# EAGLE library part HEADER-6WAY (library con-TE-EP)
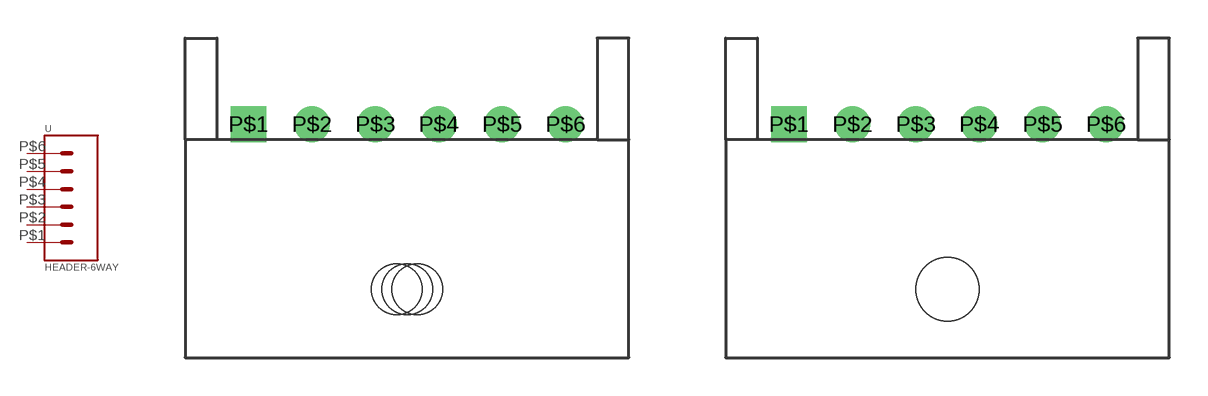
[diagram p0: symbol with the pads of 1744426-6; footprints 1744426-6, 1744426-6-NOSLOT]

Designator prefix -

## HEADER-6WAY  [1744426-6]
P$1  P$1  pas
P$2  P$2  pas
P$3  P$3  pas
P$4  P$4  pas
P$5  P$5  pas
P$6  P$6  pas

## HEADER-6WAYNOSLOT  [1744426-6-NOSLOT]
Pads as for 1744426-6

## Footprint 1744426-6 (pad centres in mm)
drill 0.9 square: P$1 -6.25,6.5
drill 0.9: P$2 -3.75,6.5; P$3 -1.25,6.5; P$4 1.25,6.5; P$5 3.75,6.5; P$6 6.25,6.5
hole 2 at 0,0
hole 2 at -0.4,0
hole 2 at 0.4,0

## Footprint 1744426-6-NOSLOT (pad centres in mm)
drill 0.9 square: P$1 -6.25,6.5
drill 0.9: P$2 -3.75,6.5; P$3 -1.25,6.5; P$4 1.25,6.5; P$5 3.75,6.5; P$6 6.25,6.5
hole 2.5 at 0,0